# EAGLE library part E07-900M10S (library E07-900M10S)
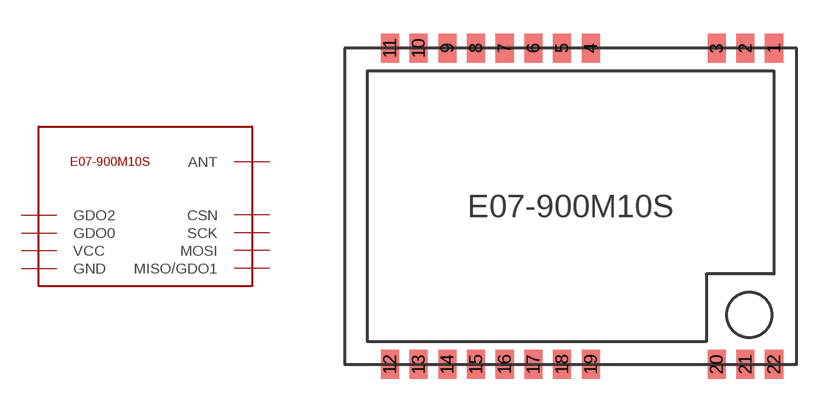
[diagram p0: symbol with the pads of E07-900M10S; footprint E07-900M10S]

Designator prefix -

## E07-900M10S  [E07-900M10S]
1  GND
2  GND
3  GND
4  GND
5  GND
9  VCC
11  GND
12  GND
14  GDO2
15  GDO0
16  MISO/GDO1
17  MOSI
18  SCK
19  CSN
20  GND
21  ANT
22  GND

## Footprint E07-900M10S (pad centres in mm)
smd 0.8 x 1.27: 1 19,14; 2 17.73,14; 3 16.46,14; 4 10.89,14; 5 9.62,14; 6 8.35,14; 7 7.08,14; 8 5.81,14; 9 4.54,14; 10 3.27,14; 11 2,14; 12 2,0; 13 3.27,0; 14 4.54,0; 15 5.81,0; 16 7.08,0; 17 8.35,0; 18 9.62,0; 19 10.89,0; 20 16.46,0; 21 17.73,0; 22 19,0